# Altium footprint library KATADC_V1-3.PcbLib: 33 footprints (part 2 of 3)
Each footprint in its own frame and in the unit in brackets; x right, y up, seen from the top. Pads: shape width x height; smd on the part's side, far side on the other; paste and mask are expansions set on the pad; w line width, h text height; cw(c..) or ccw(c..) is an arc to the next point about the centre after c.
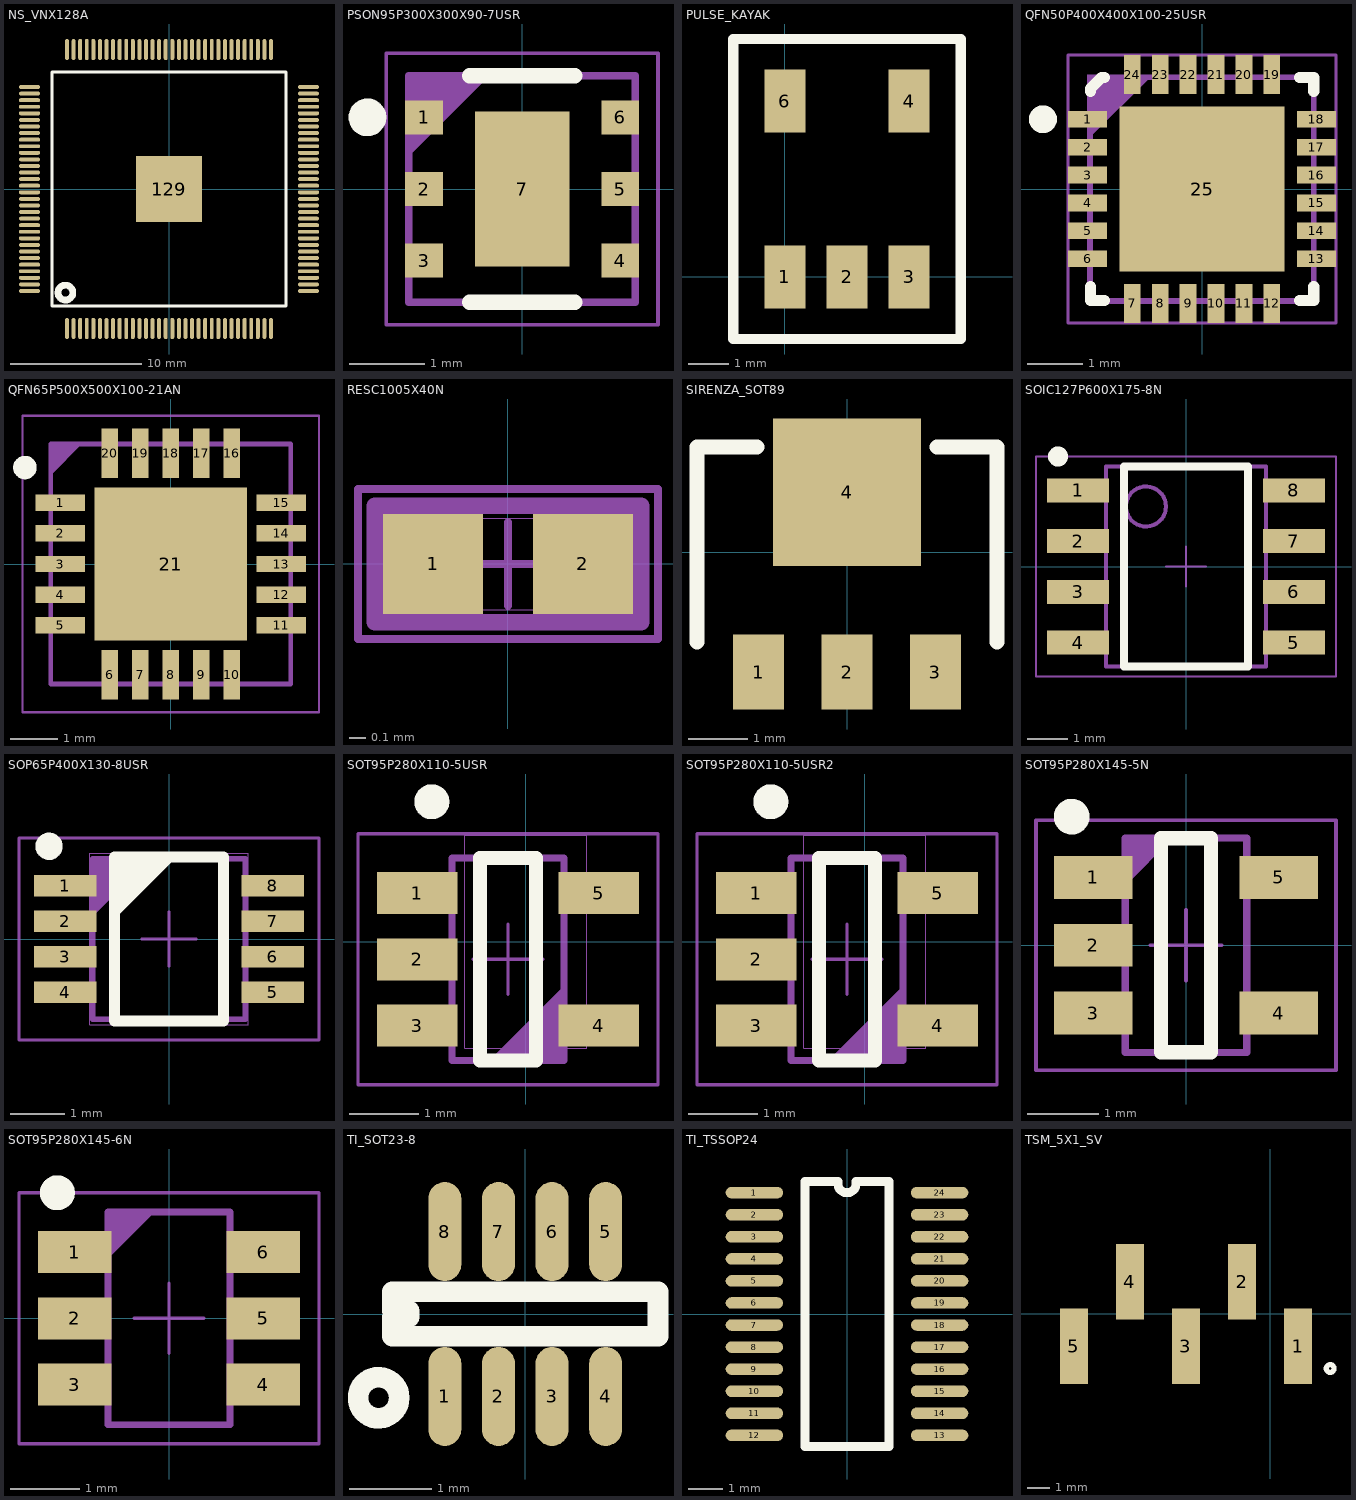
[diagram p1: the footprints below, top view; thin cyan lines are the x and y axes]

## NS_VNX128A [mm]
pads (129):
  oval 0.3x1.6 smd: 1(-7.75,-10.6) 2(-7.25,-10.6) 3(-6.75,-10.6) 4(-6.25,-10.6) 5(-5.75,-10.6) 6(-5.25,-10.6) 7(-4.75,-10.6) 8(-4.25,-10.6) 9(-3.75,-10.6) 10(-3.25,-10.6) 11(-2.75,-10.6) 12(-2.25,-10.6) 13(-1.75,-10.6) 14(-1.25,-10.6) 15(-0.75,-10.6) 16(-0.25,-10.6) 17(0.25,-10.6) 18(0.75,-10.6) 19(1.25,-10.6) 20(1.75,-10.6) 21(2.25,-10.6) 22(2.75,-10.6) 23(3.25,-10.6) 24(3.75,-10.6) 25(4.25,-10.6) 26(4.75,-10.6) 27(5.25,-10.6) 28(5.75,-10.6) 29(6.25,-10.6) 30(6.75,-10.6) 31(7.25,-10.6) 32(7.75,-10.6) 65(7.75,10.6) 66(7.25,10.6) 67(6.75,10.6) 68(6.25,10.6) 69(5.75,10.6) 70(5.25,10.6) 71(4.75,10.6) 72(4.25,10.6) 73(3.75,10.6) 74(3.25,10.6) 75(2.75,10.6) 76(2.25,10.6) 77(1.75,10.6) 78(1.25,10.6) 79(0.75,10.6) 80(0.25,10.6) 81(-0.25,10.6) 82(-0.75,10.6) 83(-1.25,10.6) 84(-1.75,10.6) 85(-2.25,10.6) 86(-2.75,10.6) 87(-3.25,10.6) 88(-3.75,10.6) 89(-4.25,10.6) 90(-4.75,10.6) 91(-5.25,10.6) 92(-5.75,10.6) 93(-6.25,10.6) 94(-6.75,10.6) 95(-7.25,10.6) 96(-7.75,10.6)
  oval 1.6x0.3 smd: 33(10.6,-7.75) 34(10.6,-7.25) 35(10.6,-6.75) 36(10.6,-6.25) 37(10.6,-5.75) 38(10.6,-5.25) 39(10.6,-4.75) 40(10.6,-4.25) 41(10.6,-3.75) 42(10.6,-3.25) 43(10.6,-2.75) 44(10.6,-2.25) 45(10.6,-1.75) 46(10.6,-1.25) 47(10.6,-0.75) 48(10.6,-0.25) 49(10.6,0.25) 50(10.6,0.75) 51(10.6,1.25) 52(10.6,1.75) 53(10.6,2.25) 54(10.6,2.75) 55(10.6,3.25) 56(10.6,3.75) 57(10.6,4.25) 58(10.6,4.75) 59(10.6,5.25) 60(10.6,5.75) 61(10.6,6.25) 62(10.6,6.75) 63(10.6,7.25) 64(10.6,7.75) 97(-10.6,7.75) 98(-10.6,7.25) 99(-10.6,6.75) 100(-10.6,6.25) 101(-10.6,5.75) 102(-10.6,5.25) 103(-10.6,4.75) 104(-10.6,4.25) 105(-10.6,3.75) 106(-10.6,3.25) 107(-10.6,2.75) 108(-10.6,2.25) 109(-10.6,1.75) 110(-10.6,1.25) 111(-10.6,0.75) 112(-10.6,0.25) 113(-10.6,-0.25) 114(-10.6,-0.75) 115(-10.6,-1.25) 116(-10.6,-1.75) 117(-10.6,-2.25) 118(-10.6,-2.75) 119(-10.6,-3.25) 120(-10.6,-3.75) 121(-10.6,-4.25) 122(-10.6,-4.75) 123(-10.6,-5.25) 124(-10.6,-5.75) 125(-10.6,-6.25) 126(-10.6,-6.75) 127(-10.6,-7.25) 128(-10.6,-7.75)
  rect 5x5 smd: 129(0,0)
Top Overlay:
  circle w0.508: c-7.874,-7.874 r0.568
  lines w0.254: -8.89,-8.89 8.89,-8.89 8.89,8.89 -8.89,8.89 -8.89,-8.89
Mechanical 13:
  text "U19" at -0.792,-0.381 h0.64

## PSON95P300X300X90-7USR [mm]
pads (7):
  rect 0.5x0.45 smd: 1(-1.3,0.95) 2(-1.3,0) 3(-1.3,-0.95) 4(1.3,-0.95) 5(1.3,0) 6(1.3,0.95)
  rect 1.25x2.05 smd: 7(0,0)
Top Overlay:
  circle w0.25: c-2.05,0.95 r0.125
  lines w0.2: -0.7,-1.5 0.7,-1.5 ; -0.7,1.5 0.7,1.5
Top Paste:
  region: -0.34,-0.74 0.34,-0.74 0.34,0.74 -0.34,0.74
Top Solder:
  region: -0.625,-1.025 0.625,-1.025 0.625,1.025 -0.625,1.025
Mechanical 1:
  lines w0.1: -1.5,0.5 -0.5,1.5 ; -1.5,0.6 -0.6,1.5 ; -1.5,0.7 -0.7,1.5 ; -1.5,0.8 -0.8,1.5 ; -1.5,0.9 -0.9,1.5 ; -1.5,1 -1,1.5 ; -1.5,1.1 -1.1,1.5 ; -1.5,1.2 -1.2,1.5 ; -1.5,1.3 -1.3,1.5 ; -1.5,1.4 -1.4,1.5 ; -1.5,-1.5 0,-1.5 1.5,-1.5 1.5,1.5 -1.5,1.5 -1.5,-1.5
Mechanical 13:
  text "U30" at -0.857,-0.381 h0.64
Mechanical 16:
  lines w0.001: -1.525,-1.525 0,-1.525 1.525,-1.525 1.525,1.525 -1.525,1.525 -1.525,-1.525
  lines w0.05: -0.5,0 0.5,0 ; 0,-0.5 0,0.5 ; -1.8,-1.8 0,-1.8 1.8,-1.8 1.8,1.8 -1.8,1.8 -1.8,-1.8

## PULSE_KAYAK [mm]
pads (5):
  rect 1x1.55 smd: 1(0,0) 2(1.524,0) 3(3.048,0) 4(3.048,4.318) 6(0,4.318)
Top Overlay:
  lines w0.254: -1.27,-1.524 4.318,-1.524 4.318,5.842 -1.27,5.842 -1.27,-1.524
Mechanical 13:
  text "T1" at -0.388,-0.381 h0.64

## QFN50P400X400X100-25USR [mm]
pads (25):
  rect 0.7x0.3 smd: 1(-2.05,1.25) 2(-2.05,0.75) 3(-2.05,0.25) 4(-2.05,-0.25) 5(-2.05,-0.75) 6(-2.05,-1.25) 13(2.05,-1.25) 14(2.05,-0.75) 15(2.05,-0.25) 16(2.05,0.25) 17(2.05,0.75) 18(2.05,1.25)
  rect 0.3x0.7 smd: 7(-1.25,-2.05) 8(-0.75,-2.05) 9(-0.25,-2.05) 10(0.25,-2.05) 11(0.75,-2.05) 12(1.25,-2.05) 19(1.25,2.05) 20(0.75,2.05) 21(0.25,2.05) 22(-0.25,2.05) 23(-0.75,2.05) 24(-1.25,2.05)
  rect 2.95x2.95 smd: 25(0,0)
Top Overlay:
  circle w0.25: c-2.85,1.25 r0.125
  lines w0.2: -2,-1.75 -2,-2 -1.75,-2 ; -2,1.75 -2,1.8 -1.8,2 -1.75,2 ; 1.75,-2 2,-2 2,-1.75 ; 1.75,2 2,2 2,1.75
Top Paste:
  region: -0.93,-0.93 -0.93,0.93 0.93,0.93 0.93,-0.93
Top Solder:
  region: -1.475,-1.475 -1.475,1.475 1.475,1.475 1.475,-1.475
Mechanical 1:
  lines w0.1: -2,1 -1,2 ; -2,1.1 -1.1,2 ; -2,1.2 -1.2,2 ; -2,1.3 -1.3,2 ; -2,1.4 -1.4,2 ; -2,1.5 -1.5,2 ; -2,1.6 -1.6,2 ; -2,1.7 -1.7,2 ; -2,1.8 -1.8,2 ; -2,1.9 -1.9,2 ; -2,-2 0,-2 2,-2 2,2 -2,2 -2,-2
Mechanical 13:
  text "AT12" at -1.073,-0.381 h0.64
Mechanical 16:
  lines w0.001: -2.05,-2.05 0,-2.05 2.05,-2.05 2.05,2.05 -2.05,2.05 -2.05,-2.05
  lines w0.05: -0.5,0 0.5,0 ; 0,-0.5 0,0.5 ; -2.4,-2.4 2.4,-2.4 2.4,2.4 -2.4,2.4 -2.4,-2.4

## QFN65P500X500X100-21AN [mm]
pads (21):
  rect 1.05x0.35 smd: 1(-2.35,1.3) 2(-2.35,0.65) 3(-2.35,0) 4(-2.35,-0.65) 5(-2.35,-1.3) 11(2.35,-1.3) 12(2.35,-0.65) 13(2.35,0) 14(2.35,0.65) 15(2.35,1.3)
  rect 0.35x1.05 smd: 6(-1.3,-2.35) 7(-0.65,-2.35) 8(0,-2.35) 9(0.65,-2.35) 10(1.3,-2.35) 16(1.3,2.35) 17(0.65,2.35) 18(0,2.35) 19(-0.65,2.35) 20(-1.3,2.35)
  rect 3.25x3.25 smd: 21(0,0)
Top Overlay:
  circle w0.25: c-3.1,2.05 r0.125
Top Paste:
  region: -0.975,0.975 0.975,0.975 0.975,-0.975 -0.975,-0.975
Mechanical 1:
  lines w0.1: -2.55,1.95 -1.95,2.55 ; -2.55,2.05 -2.05,2.55 ; -2.55,2.15 -2.15,2.55 ; -2.55,2.25 -2.25,2.55 ; -2.55,2.35 -2.35,2.55 ; -2.55,2.45 -2.45,2.55 ; -2.55,-2.55 2.55,-2.55 2.55,2.55 -2.55,2.55 -2.55,-2.55
Mechanical 13:
  text "U5" at -0.574,-0.381 h0.64
Mechanical 16:
  lines w0.001: -2.55,-2.55 2.55,-2.55 2.55,2.55 -2.55,2.55 -2.55,-2.55
  lines w0.05: -0.5,0 0.5,0 ; 0,-0.5 0,0.5 ; -3.15,-3.15 3.15,-3.15 3.15,3.15 -3.15,3.15 -3.15,-3.15

## RESC1005X40N [mm]
pads (2):
  rect 0.6x0.6 smd mask+0.05: 1(-0.45,0) 2(0.45,0)
Mechanical 1:
  lines w0.1: -0.8,-0.35 0.8,-0.35 0.8,0.35 -0.8,0.35 -0.8,-0.35
Mechanical 13:
  text "R17" at -0.791,-0.381 h0.64
Mechanical 16:
  lines w0.001: -0.525,-0.275 0.525,-0.275 0.525,0.275 -0.525,0.275 -0.525,-0.275
  lines w0.05: -0.25,0 0.25,0 ; 0,-0.25 0,0.25 ; -0.9,-0.45 0.9,-0.45 0.9,0.45 -0.9,0.45 -0.9,-0.45

## SIRENZA_SOT89 [mil]
pads (4):
  rect 34x50 smd: 1(-59,-80) 2(0,-80) 3(59,-80)
  rect 98.43x98.43 smd: 4(0,40)
Top Overlay:
  lines w10: -100,-60 -100,70 -60,70 ; 60,70 100,70 100,-60
Mechanical 13:
  text "U17" at -31.78,-15 h25

## SOIC127P600X175-8N [mm]
pads (8):
  rect 1.55x0.6 smd mask+0.05: 1(-2.7,1.905) 2(-2.7,0.635) 3(-2.7,-0.635) 4(-2.7,-1.905) 5(2.7,-1.905) 6(2.7,-0.635) 7(2.7,0.635) 8(2.7,1.905)
Top Overlay:
  circle w0.25: c-3.2,2.75 r0.125
  lines w0.2: -1.55,-2.5 1.55,-2.5 1.55,2.5 -1.55,2.5 -1.55,-2.5
Mechanical 1:
  circle w0.1: c-1,1.5 r0.5
  lines w0.1: -2,-2.5 2,-2.5 2,2.5 -2,2.5 -2,-2.5
Mechanical 13:
  text "U9" at -0.559,-0.381 h0.64
Mechanical 16:
  lines w0.001: -2,-2.5 2,-2.5 2,2.5 -2,2.5 -2,-2.5
  lines w0.05: -0.5,0 0.5,0 ; 0,-0.5 0,0.5 ; -3.75,-2.75 3.75,-2.75 3.75,2.75 -3.75,2.75 -3.75,-2.75

## SOP65P400X130-8USR [mm]
pads (8):
  rect 1.15x0.4 smd: 1(-1.9,0.975) 2(-1.9,0.325) 3(-1.9,-0.325) 4(-1.9,-0.975) 5(1.9,-0.975) 6(1.9,-0.325) 7(1.9,0.325) 8(1.9,0.975)
Top Overlay:
  circle w0.25: c-2.2,1.7 r0.125
  lines w0.2: -1,0.5 0,1.5 ; -1,0.7 -0.2,1.5 ; -1,0.9 -0.4,1.5 ; -1,1.1 -0.6,1.5 ; -1,1.3 -0.8,1.5 ; -1,-1.5 1,-1.5 1,1.5 -1,1.5 -1,-1.5
Mechanical 1:
  lines w0.1: -1.4,0.475 -0.4,1.475 ; -1.4,0.575 -0.5,1.475 ; -1.4,0.675 -0.6,1.475 ; -1.4,0.775 -0.7,1.475 ; -1.4,0.875 -0.8,1.475 ; -1.4,0.975 -0.9,1.475 ; -1.4,1.075 -1,1.475 ; -1.4,1.175 -1.1,1.475 ; -1.4,1.275 -1.2,1.475 ; -1.4,1.375 -1.3,1.475 ; -1.4,-1.475 1.4,-1.475 1.4,1.475 -1.4,1.475 -1.4,-1.475
  text "U28" at 0.45,-1.012 h0.75
Mechanical 16:
  lines w0.001: -1.45,-1.575 1.45,-1.575 1.45,1.575 -1.45,1.575 -1.45,-1.575
  lines w0.05: -0.5,0 0.5,0 ; 0,-0.5 0,0.5 ; -2.75,-1.85 2.75,-1.85 2.75,1.85 -2.75,1.85 -2.75,-1.85

## SOT95P280X110-5USR [mm]
pads (5):
  rect 1.15x0.6 smd: 1(-1.554,0.696) 2(-1.554,-0.254) 3(-1.554,-1.204) 4(1.046,-1.204) 5(1.046,0.696)
Top Overlay:
  circle w0.25: c-1.346,2.004 r0.125
  lines w0.2: -0.654,-1.704 -0.654,1.196 0.146,1.196 0.146,-1.704 -0.654,-1.704
Mechanical 1:
  lines w0.1: -0.454,-1.704 0.546,-0.704 ; -0.354,-1.704 0.546,-0.804 ; -0.254,-1.704 0.546,-0.904 ; -0.154,-1.704 0.546,-1.004 ; -0.054,-1.704 0.546,-1.104 ; 0.046,-1.704 0.546,-1.204 ; 0.146,-1.704 0.546,-1.304 ; 0.246,-1.704 0.546,-1.404 ; 0.346,-1.704 0.546,-1.504 ; 0.446,-1.704 0.546,-1.604 ; -1.054,-1.704 -1.054,1.196 0.546,1.196 0.546,-1.704 -1.054,-1.704
Mechanical 13:
  text "U36" at -0.614,0.542 h0.6
Mechanical 16:
  lines w0.001: -0.875,-1.525 0.875,-1.525 0.875,1.525 -0.875,1.525 -0.875,-1.525
  lines w0.05: -0.754,-0.254 0.246,-0.254 ; -0.254,-0.754 -0.254,0.246 ; -2.404,-2.054 -2.404,1.546 1.896,1.546 1.896,-2.054 -2.404,-2.054

## SOT95P280X110-5USR2 [mm]
pads (5):
  rect 1.15x0.6 smd: 1(-1.554,0.696) 2(-1.554,-0.254) 3(-1.554,-1.204) 4(1.046,-1.204) 5(1.046,0.696)
Top Overlay:
  circle w0.25: c-1.346,2.004 r0.125
  lines w0.2: -0.654,-1.704 -0.654,1.196 0.146,1.196 0.146,-1.704 -0.654,-1.704
Mechanical 1:
  lines w0.1: -0.454,-1.704 0.546,-0.704 ; -0.354,-1.704 0.546,-0.804 ; -0.254,-1.704 0.546,-0.904 ; -0.154,-1.704 0.546,-1.004 ; -0.054,-1.704 0.546,-1.104 ; 0.046,-1.704 0.546,-1.204 ; 0.146,-1.704 0.546,-1.304 ; 0.246,-1.704 0.546,-1.404 ; 0.346,-1.704 0.546,-1.504 ; 0.446,-1.704 0.546,-1.604 ; -1.054,-1.704 -1.054,1.196 0.546,1.196 0.546,-1.704 -1.054,-1.704
Mechanical 13:
  text "U10" at -0.614,0.509 h0.6
Mechanical 16:
  lines w0.001: -0.875,-1.525 0.875,-1.525 0.875,1.525 -0.875,1.525 -0.875,-1.525
  lines w0.05: -0.754,-0.254 0.246,-0.254 ; -0.254,-0.754 -0.254,0.246 ; -2.404,-2.054 -2.404,1.546 1.896,1.546 1.896,-2.054 -2.404,-2.054

## SOT95P280X145-5N [mm]
pads (5):
  rect 1.1x0.6 smd: 1(-1.3,0.95) 2(-1.3,0) 3(-1.3,-0.95) 4(1.3,-0.95) 5(1.3,0.95)
Top Overlay:
  circle w0.25: c-1.6,1.8 r0.125
  lines w0.2: -0.35,-1.5 0.35,-1.5 0.35,1.5 -0.35,1.5 -0.35,-1.5
Mechanical 1:
  lines w0.1: -0.85,0.9 -0.25,1.5 ; -0.85,1 -0.35,1.5 ; -0.85,1.1 -0.45,1.5 ; -0.85,1.2 -0.55,1.5 ; -0.85,1.3 -0.65,1.5 ; -0.85,1.4 -0.75,1.5 ; -0.85,-1.5 0.85,-1.5 0.85,1.5 -0.85,1.5 -0.85,-1.5
Mechanical 13:
  text "U29" at -0.842,-0.381 h0.64
Mechanical 16:
  lines w0.001: -0.85,-1.5 0.85,-1.5 0.85,1.5 -0.85,1.5 -0.85,-1.5
  lines w0.05: -0.5,0 0.5,0 ; 0,-0.5 0,0.5 ; -2.1,-1.75 2.1,-1.75 2.1,1.75 -2.1,1.75 -2.1,-1.75

## SOT95P280X145-6N [mm]
pads (6):
  rect 1.05x0.6 smd: 1(-1.35,0.95) 2(-1.35,0) 3(-1.35,-0.95) 4(1.35,-0.95) 5(1.35,0) 6(1.35,0.95)
Top Overlay:
  circle w0.25: c-1.6,1.8 r0.125
Mechanical 1:
  lines w0.1: -0.875,0.925 -0.275,1.525 ; -0.875,1.025 -0.375,1.525 ; -0.875,1.125 -0.475,1.525 ; -0.875,1.225 -0.575,1.525 ; -0.875,1.325 -0.675,1.525 ; -0.875,1.425 -0.775,1.525 ; -0.875,-1.525 0.875,-1.525 0.875,1.525 -0.875,1.525 -0.875,-1.525
Mechanical 13:
  text "U21" at -0.721,-0.381 h0.64
Mechanical 16:
  lines w0.001: -0.875,-1.525 0.875,-1.525 0.875,1.525 -0.875,1.525 -0.875,-1.525
  lines w0.05: -0.5,0 0.5,0 ; 0,-0.5 0,0.5 ; -2.15,-1.8 2.15,-1.8 2.15,1.8 -2.15,1.8 -2.15,-1.8

## TI_SOT23-8 [mm]
pads (8):
  oval 0.4x1.2 smd: 1(-0.975,-1) 2(-0.325,-1) 3(0.325,-1) 4(0.975,-1) 5(0.975,1) 6(0.325,1) 7(-0.325,1) 8(-0.975,1)
Top Overlay:
  circle w0.25: c-1.778,-1.016 r0.25
  lines w0.254: -1.61,-0.27 -1.61,-0.034 -1.409,-0.034 -1.409,0.034 -1.61,0.034 -1.61,0.27 1.61,0.27 1.61,-0.27 -1.61,-0.27
Mechanical 13:
  text "U1" at -0.438,-0.381 h0.64

## TI_TSSOP24 [mil]
pads (24):
  oval 65x13 smd: 1(-105,137.5) 2(-105,112.5) 3(-105,87.5) 4(-105,62.5) 5(-105,37.5) 6(-105,12.5) 7(-105,-12.5) 8(-105,-37.5) 9(-105,-62.5) 10(-105,-87.5) 11(-105,-112.5) 12(-105,-137.5) 13(105,-137.5) 14(105,-112.5) 15(105,-87.5) 16(105,-62.5) 17(105,-37.5) 18(105,-12.5) 19(105,12.5) 20(105,37.5) 21(105,62.5) 22(105,87.5) 23(105,112.5) 24(105,137.5)
Top Overlay:
  lines w10: -47.5,-150 -47.5,150 -10,150 -10,145 ccw(c0,147.92) 10,145 10,150 47.5,150 47.5,-150 -47.5,-150
Mechanical 2:
  text "U34" at -34.34,-15 h25

## TSM_5X1_SV [mil]
pads (5):
  rect 50x135 smd mask+2: 1(50,-57.5) 2(-50,57.5) 3(-150,-57.5) 4(-250,57.5) 5(-350,-57.5)
Top Overlay:
  circle w9.06: c107.09,-97.24 r6.98